# Altium footprint library DSUB25-M90.PcbLib: 1 footprints
Each footprint in its own frame and in the unit in brackets; x right, y up, seen from the top. Pads: shape width x height; smd on the part's side, far side on the other; paste and mask are expansions set on the pad; w line width, h text height; cw(c..) or ccw(c..) is an arc to the next point about the centre after c.
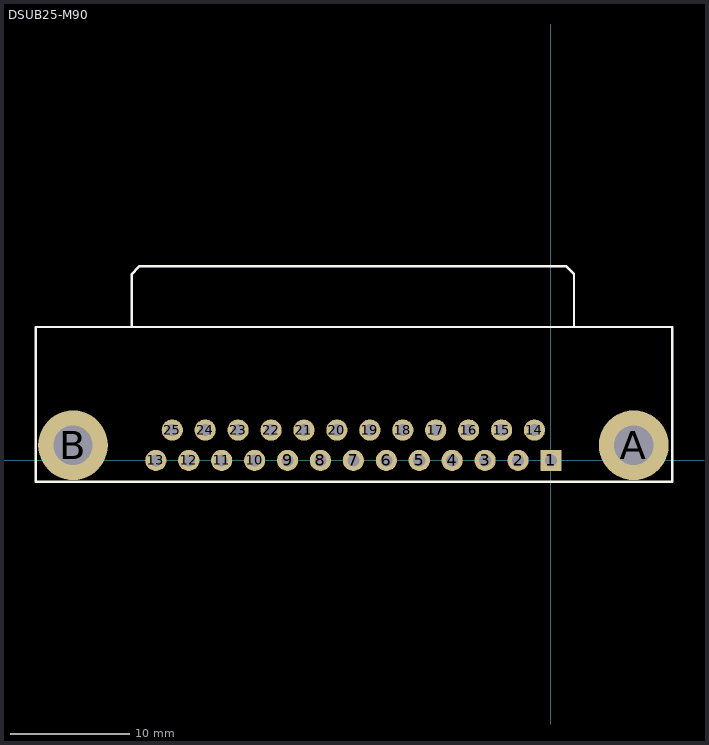
[diagram p0: the footprint, top view; thin cyan lines are the x and y axes]

## DSUB25-M90 [mil]
pads (27):
  rect 70x70 hole 40: 1(-0.06,0)
  round 70 hole 40: 2(-108.72,0) 3(-217.39,0) 4(-326.05,0) 5(-434.71,0) 6(-543.37,0) 7(-652.03,0) 8(-760.69,0) 9(-869.35,0) 10(-978.02,0) 11(-1086.68,0) 12(-1195.34,0) 13(-1304,0) 14(-54.39,100) 15(-163.06,100) 16(-271.72,100) 17(-380.38,100) 18(-489.04,100) 19(-597.7,100) 20(-706.36,100) 21(-815.02,100) 22(-923.68,100) 23(-1032.35,100) 24(-1141.01,100) 25(-1249.67,100)
  round 230 hole 130: A(273.17,50) B(-1577.23,50)
Top Overlay:
  lines w8: -1384,440 -1384,613.23 -1359,640 51,640 76,615 76,440 ; -1700,-70 -1700,440 400,440 400,-70 -1700,-70